# EAGLE library part USB-A-D-F-W-TH (library USB-A-D-F-W-TH)
SAMTEC - USB-A-D-F-W-TH - USB Stacked Connector, USB Type A, USB 2.0, 8 Ways, Right Angle, Phosphor Bronze Source: Datasheet <https://suddendocs.samtec.com/prints/usb-a-d-x-x-th-x-mkt.pdf>
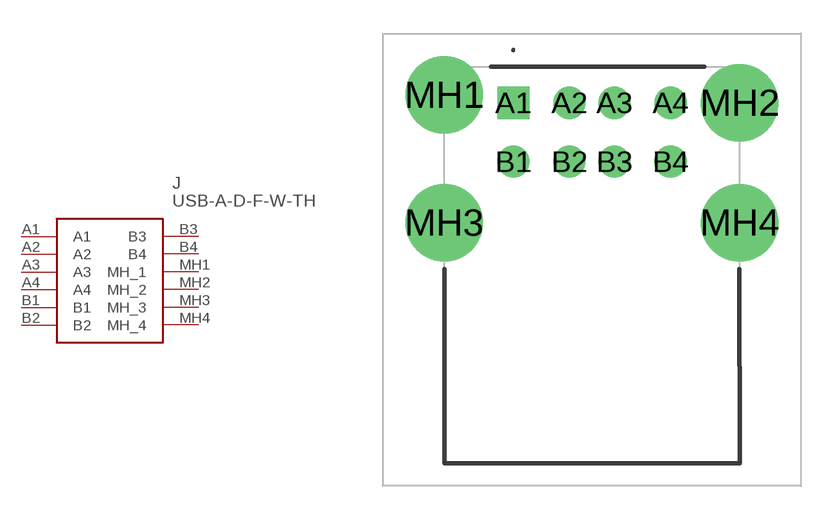
[diagram p0: symbol with the pads of USBADFWTH; footprint USBADFWTH]

Designator prefix J

## USB-A-D-F-W-TH (Arrow_Part_Number: USB-A-D-F-W-TH; Arrow_Price-Stock: https://www.arrow.com/en/products/usb-a-d-f-w-th/samtec?region=nac; Description: SAMTEC - USB-A-D-F-W-TH - USB Stacked Connector, USB Type A, USB 2.0, 8 Ways, Right Angle, Phosphor Bronze; Height: 16.09mm; Manufacturer_Name: SAMTEC; Manufacturer_Part_Number: USB-A-D-F-W-TH; Mouser_Part_Number: 200-USBADFWTH; Mouser_Price-Stock: https://www.mouser.co.uk/ProductDetail/Samtec/USB-A-D-F-W-TH?qs=Cqqh%252BS766wn0jJmLeJ6S%2Fg%3D%3D)  [USBADFWTH]
A1  A1
A2  A2
A3  A3
A4  A4
B1  B1
B2  B2
B3  B3
B4  B4
MH1  MH_1
MH2  MH_2
MH3  MH_3
MH4  MH_4

## Footprint USBADFWTH (pad centres in mm)
USB-A-D-F-W-TH-5
drill 0.92 pad 1.431 square: A1 0,0
drill 0.92 pad 1.431: A2 2.5,0; A3 4.5,0; A4 7,0; B1 0,-2.62; B2 2.5,-2.62; B3 4.5,-2.62; B4 7,-2.62
drill 2.3 pad 3.45: MH1 -3.07,0.35; MH2 10.07,0; MH3 -3.07,-5.33; MH4 10.07,-5.33